# EAGLE library part PICAXE-14M2 (library PICAXEv2)
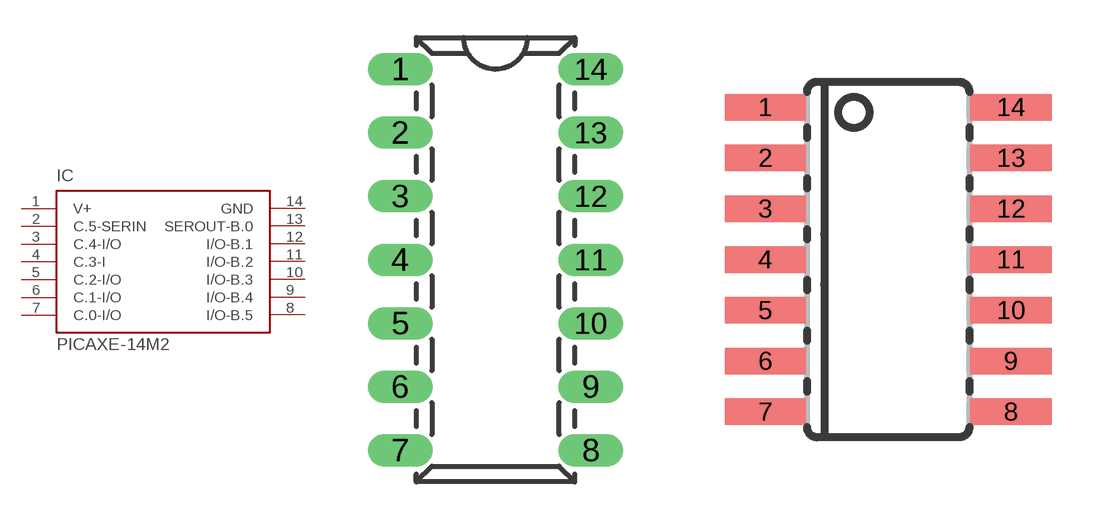
[diagram p1: symbol with the pads of DIL14; footprints DIL14, SOIC14]

Designator prefix IC

## PICAXE-14M2-DIL  [DIL14]
1  V+  pwr
2  C.5-SERIN  in
3  C.4-I/O
4  C.3-I  in
5  C.2-I/O
6  C.1-I/O
7  C.0-I/O
8  I/O-B.5
9  I/O-B.4
10  I/O-B.3
11  I/O-B.2
12  I/O-B.1
13  SEROUT-B.0  out
14  GND  pwr

## PICAXE-14M2-SMD  [SOIC14]
Pads as for DIL14

## Footprint DIL14 (pad centres in mm)
drill 0.8 pad 1.27 long: 1 -3.81,7.62; 2 -3.81,5.08; 3 -3.81,2.54; 4 -3.81,0; 5 -3.81,-2.54; 6 -3.81,-5.08; 7 -3.81,-7.62; 8 3.81,-7.62; 9 3.81,-5.08; 10 3.81,-2.54; 11 3.81,0; 12 3.81,2.54; 13 3.81,5.08; 14 3.81,7.62

## Footprint SOIC14 (pad centres in mm)
smd 2.032 x 0.66: 1 -3.232,3.81; 2 -3.232,2.54; 3 -3.232,1.27; 4 -3.232,0; 5 -3.232,-1.27; 6 -3.232,-2.54; 7 -3.232,-3.81; 8 2.915,-3.81; 9 2.915,-2.54; 10 2.915,-1.27; 11 2.915,0; 12 2.915,1.27; 13 2.915,2.54; 14 2.915,3.81